# EAGLE library part 90814-0806 (library audio amplifier example)
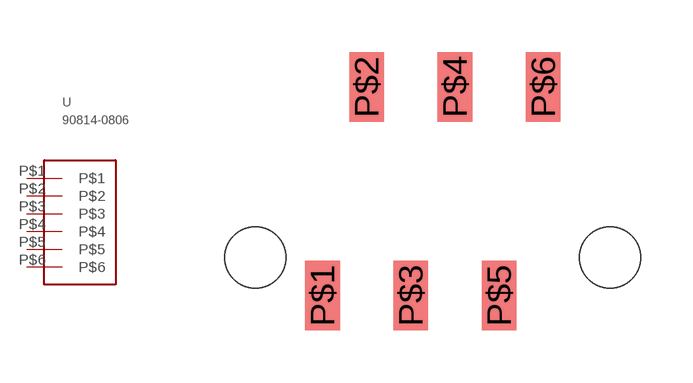
[diagram p2: symbol with the pads of 90814-0806; footprint 90814-0806]

Designator prefix -

## 90814-0806  [90814-0806]
P$1  P$1
P$2  P$2
P$3  P$3
P$4  P$4
P$5  P$5
P$6  P$6

## Footprint 90814-0806 (pad centres in mm)
smd 1 x 2: P$1 0,0; P$2 1.27,5.999; P$3 2.54,0; P$4 3.81,5.999; P$5 5.08,0; P$6 6.35,5.999
hole 1.75 at -1.93,1.1
hole 1.75 at 8.27,1.1